# EAGLE library part WL-OCTR_DIP6_NZC (library WL-OCTR)
WL-OCTR DIP-6 Characteristics Zero-Cross and Non-Zero Cross (Random Phase) Type Different trigger currents and peak off-state voltages available High isolation voltage VDE, UL and CQC certified Applications White goods AC motor drivers Industrial controls Static power switches Temperature controls Light controls <https://www.we-online.com/components/media/o772556v209%20multi-WL-OCTR-DIP6-Standard.jpg> Details see: www.we-online.com/components/products/WL-OCTR-DIP-6 <www.we-online.com/catalog/WL-OCTR-DIP-6/?utm_source=eagle_model&utm_medium=description_link&utm_campaign=eisos_eagle> Created by Ella Wu 2024-04-11 2024 (C) Wurth Elektronik
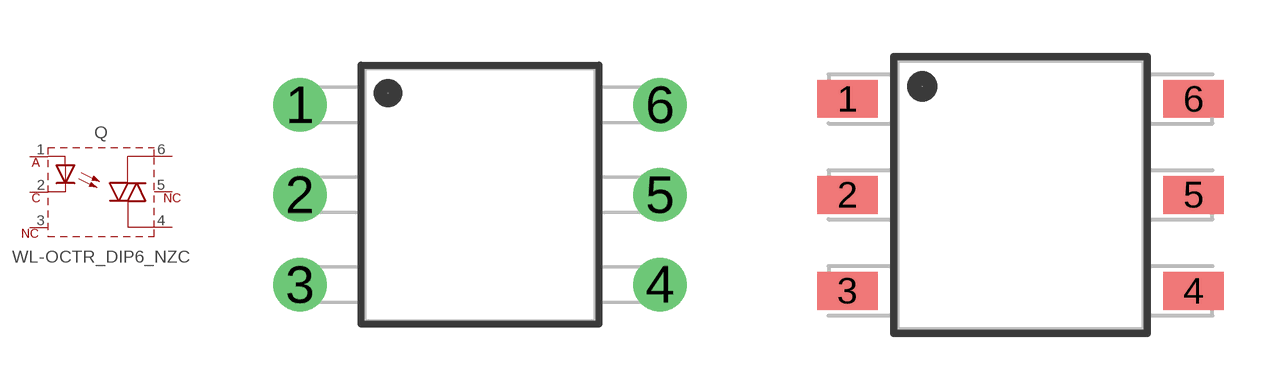
[diagram p1: symbol with the pads of WL-OCTR_DIP6_M-TYPE; footprints WL-OCTR_DIP6_M-TYPE, WL-OCTR_DIP6_SL-TYPE]

Designator prefix Q

## WL-OCTR_DIP6_NZC_14230116111_M-TYPE (DATASHEET-URL: https://www.we-online.com/redexpert/spec/14230116111?ae; IFT: 15mA; MOUNT: THT; PACKAGE-TYPE: DIP-6_M-Type; PART-NUMBER: 14230116111; TYPE: Random phase; VALUE: 14230116111; VDRM: 250V; VF-TYP: 1.24V; VISO: 5000V(RMS)), WL-OCTR_DIP6_NZC_14230126111_M-TYPE (DATASHEET-URL: https://www.we-online.com/redexpert/spec/14230126111?ae; IFT: 10mA; MOUNT: THT; PACKAGE-TYPE: DIP-6_M-Type; PART-NUMBER: 14230126111; TYPE: Random phase; VALUE: 14230126111; VDRM: 250V; VF-TYP: 1.24V; VISO: 5000V(RMS)), WL-OCTR_DIP6_NZC_14230136111_M-TYPE (DATASHEET-URL: https://www.we-online.com/redexpert/spec/14230136111?ae; IFT: 5mA; MOUNT: THT; PACKAGE-TYPE: DIP-6_M-Type; PART-NUMBER: 14230136111; TYPE: Random phase; VALUE: 14230136111; VDRM: 250V; VF-TYP: 1.24V; VISO: 5000V(RMS)), WL-OCTR_DIP6_NZC_14230216111_M-TYPE (DATASHEET-URL: https://www.we-online.com/redexpert/spec/14230216111?ae; IFT: 15mA; MOUNT: THT; PACKAGE-TYPE: DIP-6_M-Type; PART-NUMBER: 14230216111; TYPE: Random phase; VALUE: 14230216111; VDRM: 400V; VF-TYP: 1.24V; VISO: 5000V(RMS)), WL-OCTR_DIP6_NZC_14230226111_M-TYPE (DATASHEET-URL: https://www.we-online.com/redexpert/spec/14230226111?ae; IFT: 10mA; MOUNT: THT; PACKAGE-TYPE: DIP-6_M-Type; PART-NUMBER: 14230226111; TYPE: Random phase; VALUE: 14230226111; VDRM: 400V; VF-TYP: 1.24V; VISO: 5000V(RMS)), WL-OCTR_DIP6_NZC_14230236111_M-TYPE (DATASHEET-URL: https://www.we-online.com/redexpert/spec/14230236111?ae; IFT: 5mA; MOUNT: THT; PACKAGE-TYPE: DIP-6_M-Type; PART-NUMBER: 14230236111; TYPE: Random phase; VALUE: 14230236111; VDRM: 400V; VF-TYP: 1.24V; VISO: 5000V(RMS)), WL-OCTR_DIP6_NZC_14230516111_M-TYPE (DATASHEET-URL: https://www.we-online.com/redexpert/spec/14230516111?ae; IFT: 15mA; MOUNT: THT; PACKAGE-TYPE: DIP-6_M-Type; PART-NUMBER: 14230516111; TYPE: Random phase; VALUE: 14230516111; VDRM: 600V; VF-TYP: 1.24V; VISO: 5000V(RMS)), WL-OCTR_DIP6_NZC_14230526111_M-TYPE (DATASHEET-URL: https://www.we-online.com/redexpert/spec/14230526111?ae; IFT: 10mA; MOUNT: THT; PACKAGE-TYPE: DIP-6_M-Type; PART-NUMBER: 14230526111; TYPE: Random phase; VALUE: 14230526111; VDRM: 600V; VF-TYP: 1.24V; VISO: 5000V(RMS)), WL-OCTR_DIP6_NZC_14230536111_M-TYPE (DATASHEET-URL: https://www.we-online.com/redexpert/spec/14230536111?ae; IFT: 5mA; MOUNT: THT; PACKAGE-TYPE: DIP-6_M-Type; PART-NUMBER: 14230536111; TYPE: Random phase; VALUE: 14230536111; VDRM: 600V; VF-TYP: 1.24V; VISO: 5000V(RMS))  [WL-OCTR_DIP6_M-TYPE]
1  1  pas
2  2  pas
3  3  pas
4  4  pas
5  5  pas
6  6  pas

## WL-OCTR_DIP6_NZC_14230116301_SL-TYPE (DATASHEET-URL: https://www.we-online.com/redexpert/spec/14230116301?ae; IFT: 15mA; MOUNT: SMT; PACKAGE-TYPE: DIP-6_SL-Type; PART-NUMBER: 14230116301; TYPE: Random phase; VALUE: 14230116301; VDRM: 250V; VF-TYP: 1.24V; VISO: 5000V(RMS)), WL-OCTR_DIP6_NZC_14230126301_SL-TYPE (DATASHEET-URL: https://www.we-online.com/redexpert/spec/14230126301?ae; IFT: 10mA; MOUNT: SMT; PACKAGE-TYPE: DIP-6_SL-Type; PART-NUMBER: 14230126301; TYPE: Random phase; VALUE: 14230126301; VDRM: 250V; VF-TYP: 1.24V; VISO: 5000V(RMS)), WL-OCTR_DIP6_NZC_14230136301_SL-TYPE (DATASHEET-URL: https://www.we-online.com/redexpert/spec/14230136301?ae; IFT: 5mA; MOUNT: SMT; PACKAGE-TYPE: DIP-6_SL-Type; PART-NUMBER: 14230136301; TYPE: Random phase; VALUE: 14230136301; VDRM: 250V; VF-TYP: 1.24V; VISO: 5000V(RMS)), WL-OCTR_DIP6_NZC_14230216301_SL-TYPE (DATASHEET-URL: https://www.we-online.com/redexpert/spec/14230216301?ae; IFT: 15mA; MOUNT: SMT; PACKAGE-TYPE: DIP-6_SL-Type; PART-NUMBER: 14230216301; TYPE: Random phase; VALUE: 14230216301; VDRM: 400V; VF-TYP: 1.24V; VISO: 5000V(RMS)), WL-OCTR_DIP6_NZC_14230226301_SL-TYPE (DATASHEET-URL: https://www.we-online.com/redexpert/spec/14230226301?ae; IFT: 10mA; MOUNT: SMT; PACKAGE-TYPE: DIP-6_SL-Type; PART-NUMBER: 14230226301; TYPE: Random phase; VALUE: 14230226301; VDRM: 400V; VF-TYP: 1.24V; VISO: 5000V(RMS)), WL-OCTR_DIP6_NZC_14230236301_SL-TYPE (DATASHEET-URL: https://www.we-online.com/redexpert/spec/14230236301?ae; IFT: 5mA; MOUNT: SMT; PACKAGE-TYPE: DIP-6_SL-Type; PART-NUMBER: 14230236301; TYPE: Random phase; VALUE: 14230236301; VDRM: 400V; VF-TYP: 1.24V; VISO: 5000V(RMS)), WL-OCTR_DIP6_NZC_14230516301_SL-TYPE (DATASHEET-URL: https://www.we-online.com/redexpert/spec/14230516301?ae; IFT: 15mA; MOUNT: SMT; PACKAGE-TYPE: DIP-6_SL-Type; PART-NUMBER: 14230516301; TYPE: Random phase; VALUE: 14230516301; VDRM: 600V; VF-TYP: 1.24V; VISO: 5000V(RMS)), WL-OCTR_DIP6_NZC_14230526301_SL-TYPE (DATASHEET-URL: https://www.we-online.com/redexpert/spec/14230526301?ae; IFT: 10mA; MOUNT: SMT; PACKAGE-TYPE: DIP-6_SL-Type; PART-NUMBER: 14230526301; TYPE: Random phase; VALUE: 14230526301; VDRM: 600V; VF-TYP: 1.24V; VISO: 5000V(RMS)), WL-OCTR_DIP6_NZC_14230536301_SL-TYPE (DATASHEET-URL: https://www.we-online.com/redexpert/spec/14230536301?ae; IFT: 5mA; MOUNT: SMT; PACKAGE-TYPE: DIP-6_SL-Type; PART-NUMBER: 14230536301; TYPE: Random phase; VALUE: 14230536301; VDRM: 600V; VF-TYP: 1.24V; VISO: 5000V(RMS))  [WL-OCTR_DIP6_SL-TYPE]
Pads as for WL-OCTR_DIP6_M-TYPE

## WL-OCTR_DIP6_NZC_14230116011_STANDARD (DATASHEET-URL: https://www.we-online.com/redexpert/spec/14230116011?ae; IFT: 15mA; MOUNT: THT; PACKAGE-TYPE: DIP-6_Standard; PART-NUMBER: 14230116011; TYPE: Random phase; VALUE: 14230116011; VDRM: 250V; VF-TYP: 1.24V; VISO: 5000V(RMS)), WL-OCTR_DIP6_NZC_14230126011_STANDARD (DATASHEET-URL: https://www.we-online.com/redexpert/spec/14230126011?ae; IFT: 10mA; MOUNT: THT; PACKAGE-TYPE: DIP-6_Standard; PART-NUMBER: 14230126011; TYPE: Random phase; VALUE: 14230126011; VDRM: 250V; VF-TYP: 1.24V; VISO: 5000V(RMS)), WL-OCTR_DIP6_NZC_14230136011_STANDARD (DATASHEET-URL: https://www.we-online.com/redexpert/spec/14230136011?ae; IFT: 5mA; MOUNT: THT; PACKAGE-TYPE: DIP-6_Standard; PART-NUMBER: 14230136011; TYPE: Random phase; VALUE: 14230136011; VDRM: 250V; VF-TYP: 1.24V; VISO: 5000V(RMS)), WL-OCTR_DIP6_NZC_14230216011_STANDARD (DATASHEET-URL: https://www.we-online.com/redexpert/spec/14230216011?ae; IFT: 15mA; MOUNT: THT; PACKAGE-TYPE: DIP-6_Standard; PART-NUMBER: 14230216011; TYPE: Random phase; VALUE: 14230216011; VDRM: 400V; VF-TYP: 1.24V; VISO: 5000V(RMS)), WL-OCTR_DIP6_NZC_14230226011_STANDARD (DATASHEET-URL: https://www.we-online.com/redexpert/spec/14230226011?ae; IFT: 10mA; MOUNT: THT; PACKAGE-TYPE: DIP-6_Standard; PART-NUMBER: 14230226011; TYPE: Random phase; VALUE: 14230226011; VDRM: 400V; VF-TYP: 1.24V; VISO: 5000V(RMS)), WL-OCTR_DIP6_NZC_14230236011_STANDARD (DATASHEET-URL: https://www.we-online.com/redexpert/spec/14230236011?ae; IFT: 5mA; MOUNT: THT; PACKAGE-TYPE: DIP-6_Standard; PART-NUMBER: 14230236011; TYPE: Random phase; VALUE: 14230236011; VDRM: 400V; VF-TYP: 1.24V; VISO: 5000V(RMS)), WL-OCTR_DIP6_NZC_14230516011_STANDARD (DATASHEET-URL: https://www.we-online.com/redexpert/spec/14230516011?ae; IFT: 15mA; MOUNT: THT; PACKAGE-TYPE: DIP-6_Standard; PART-NUMBER: 14230516011; TYPE: Random phase; VALUE: 14230516011; VDRM: 600V; VF-TYP: 1.24V; VISO: 5000V(RMS)), WL-OCTR_DIP6_NZC_14230526011_STANDARD (DATASHEET-URL: https://www.we-online.com/redexpert/spec/14230526011?ae; IFT: 10mA; MOUNT: THT; PACKAGE-TYPE: DIP-6_Standard; PART-NUMBER: 14230526011; TYPE: Random phase; VALUE: 14230526011; VDRM: 600V; VF-TYP: 1.24V; VISO: 5000V(RMS)), WL-OCTR_DIP6_NZC_14230536011_STANDARD (DATASHEET-URL: https://www.we-online.com/redexpert/spec/14230536011?ae; IFT: 5mA; MOUNT: THT; PACKAGE-TYPE: DIP-6_Standard; PART-NUMBER: 14230536011; TYPE: Random phase; VALUE: 14230536011; VDRM: 600V; VF-TYP: 1.24V; VISO: 5000V(RMS))  [WL-OCTR_DIP6_STANDARD]
Pads as for WL-OCTR_DIP6_M-TYPE

## Footprint WL-OCTR_DIP6_M-TYPE (pad centres in mm)
WL-OCTR Optocoupler Triac Size : DIP 6 M-Type, THT, 6pins
drill 1: 1 -5.08,2.54; 2 -5.08,0; 3 -5.08,-2.54; 4 5.08,-2.54; 5 5.08,0; 6 5.08,2.54

## Footprint WL-OCTR_DIP6_SL-TYPE (pad centres in mm)
WL-OCTR Optocoupler Triac Size : DIP 6 SL-Type, SMT, 6pins
smd 1.6 x 1: 1 -4.575,2.54; 2 -4.575,0; 3 -4.575,-2.54; 4 4.575,-2.54; 5 4.575,0; 6 4.575,2.54

## Footprint WL-OCTR_DIP6_STANDARD (pad centres in mm)
WL-OCTR Optocoupler Triac Size : DIP 6 Standard, THT, 6pins
drill 1: 1 -3.81,2.54; 2 -3.81,0; 3 -3.81,-2.54; 4 3.81,-2.54; 5 3.81,0; 6 3.81,2.54